# Altium schematic symbol library PMOS-2.Schlib: 1 symbol
Pins are listed as number, name and electrical type; pins without a type are passive.

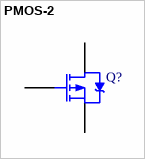
[diagram p0: symbol PMOS-2]

## PMOS-2
designator Q?
P-Channel Power MOSFET
pins: 1 G, 2 D, 3 S